# Altium schematic symbol library Modules.SchLib: 6 symbols
Pins are listed as number, name and electrical type; pins without a type are passive.

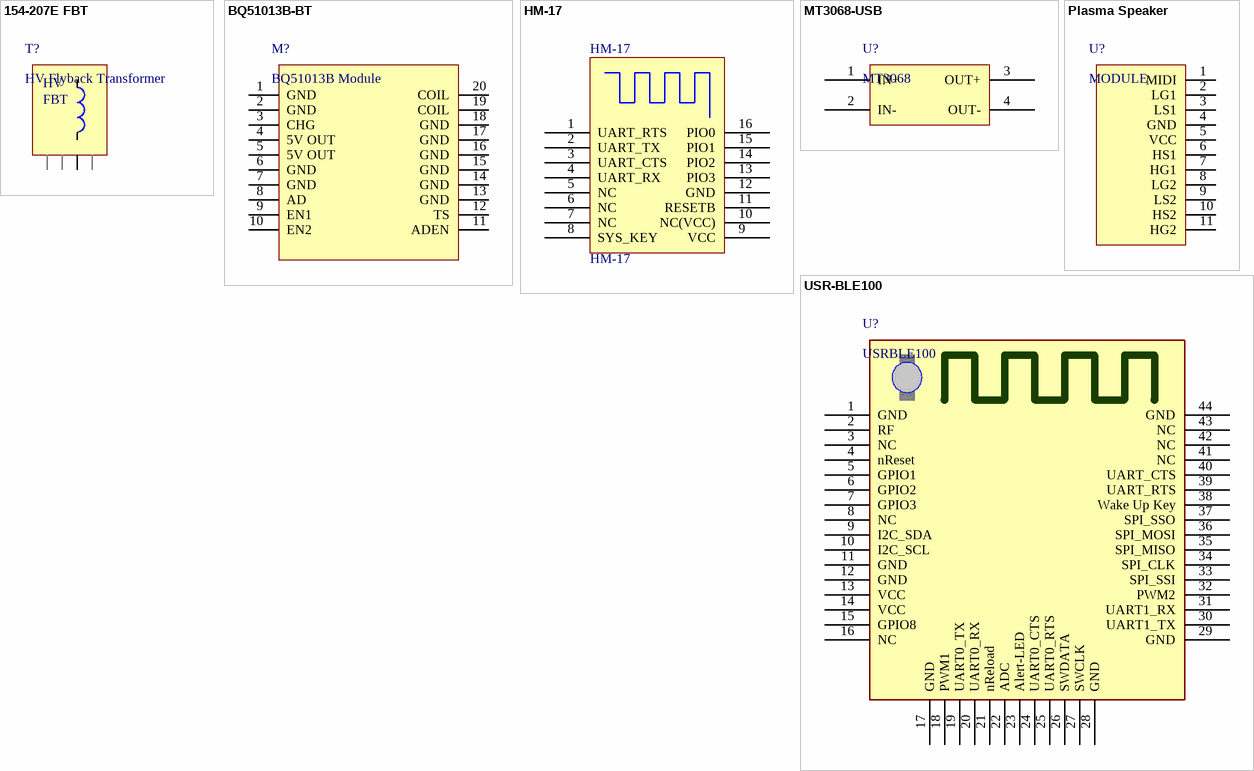
[diagram p0: symbols 154-207E FBT to USR-BLE100]

## 154-207E FBT
designator T?, comment HV Flyback Transformer
footprint 154-207E
pins: 1
text: HV; FBT

## BQ51013B-BT
designator M?, comment BQ51013B Module
footprint BQ51013B_BT (Wireless Receiver Designed by Burning)
pins: 1 GND, 2 GND, 3 CHG, 4 5V OUT, 5 5V OUT, 6 GND, 7 GND, 8 AD, 9 EN1, 10 EN2, 11 ADEN, 12 TS, 13 GND, 14 GND, 15 GND, 16 GND, 17 GND, 18 GND, 19 COIL, 20 COIL

## HM-17
designator HM-17
footprint HM_05_06_07_11_13_17
pins: 1 UART_RTS, 2 UART_TX, 3 UART_CTS, 4 UART_RX, 5 NC, 6 NC, 7 NC, 8 SYS_KEY, 9 VCC, 10 NC(VCC), 11 RESETB, 12 GND, 13 PIO3, 14 PIO2, 15 PIO1, 16 PIO0

## MT3068-USB
designator U?, comment MT3068
MT3068 Boost converter with micro USB
footprint MT3068-usb (MT3068 with micro usb)
pins: 1 IN+, 2 IN-, 3 OUT+, 4 OUT-

## Plasma Speaker
designator U?, comment MODULE
Plasma Speaker Signal Module
footprint Plasma Speaker Module (Signal Module for Plasma Speaker)
pins: 1 MIDI, 2 LG1, 3 LS1, 4 GND, 5 VCC, 6 HS1, 7 HG1, 8 LG2, 9 LS2, 10 HS2, 11 HG2

## USR-BLE100
designator U?, comment USRBLE100
Bluetooth 4.1
footprint USR-C322-PCB (USR-C322封装)
pins: 1 GND, 2 RF, 3 NC, 4 nReset, 5 GPIO1, 6 GPIO2, 7 GPIO3, 8 NC, 9 I2C_SDA, 10 I2C_SCL, 11 GND, 12 GND, 13 VCC, 14 VCC, 15 GPIO8, 16 NC, 17 GND, 18 PWM1, 19 UART0_TX, 20 UART0_RX, 21 nReload, 22 ADC, 23 Alert-LED, 24 UART0_CTS, 25 UART0_RTS, 26 SWDATA, 27 SWCLK, 28 GND, 29 GND, 30 UART1_TX, 31 UART1_RX, 32 PWM2, 33 SPI_SSI, 34 SPI_CLK, 35 SPI_MISO, 36 SPI_MOSI, 37 SPI_SSO, 38 Wake Up Key, 39 UART_RTS, 40 UART_CTS, 41 NC, 42 NC, 43 NC, 44 GND